# Altium schematic symbol library BMD-330.SchLib: 1 symbol
Pins are listed as number, name and electrical type; pins without a type are passive.

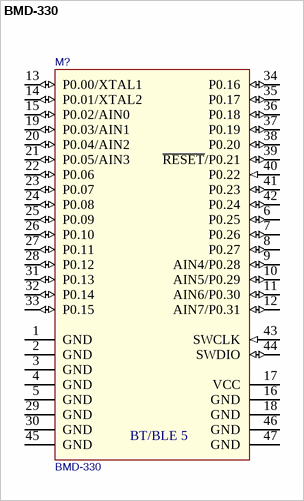
[diagram p0: symbol BMD-330]

## BMD-330
designator M?
Bluetooth Modules - 802.15.1 BMD-330-A-R; Value: BMD-330-A-R
footprint BMD-330 (LGA, 47pin, 1.1mm Pitch, 14mm x 9.8mm)
pins: 1 GND (power), 2 GND (power), 3 GND (power), 4 GND (power), 5 GND (power), 6 P0.25 (io), 7 P0.26 (io), 8 P0.27 (io), 9 AIN4/P0.28 (io), 10 AIN5/P0.29 (io), 11 AIN6/P0.30 (io), 12 AIN7/P0.31 (io), 13 P0.00/XTAL1 (io), 14 P0.01/XTAL2 (io), 15 P0.02/AIN0 (io), 16 GND (power), 17 VCC (power) "1.7-3.6V", 18 GND (power), 19 P0.03/AIN1 (io), 20 P0.04/AIN2 (io), 21 P0.05/AIN3 (io), 22 P0.06 (io), 23 P0.07 (io), 24 P0.08 (io), 25 P0.09 (io), 26 P0.10 (io), 27 P0.11 (io), 28 P0.12 (io), 29 GND (power), 30 GND (power), 31 P0.13 (io), 32 P0.14 (io), 33 P0.15 (io), 34 P0.16 (io), 35 P0.17 (io), 36 P0.18 (io), 37 P0.19 (io), 38 P0.20 (io), 39 ~{RESET}/P0.21 (io), 40 P0.22 (in), 41 P0.23 (io), 42 P0.24 (io), 43 SWCLK (in), 44 SWDIO (io), 45 GND (power), 46 GND (power), 47 GND (power)
text: BT/BLE 5